# Altium footprint library ESD_LittleFuse_SP3304NUTG _3V3.PcbLib: 1 footprints
Each footprint in its own frame and in the unit in brackets; x right, y up, seen from the top. Pads: shape width x height; smd on the part's side, far side on the other; paste and mask are expansions set on the pad; w line width, h text height; cw(c..) or ccw(c..) is an arc to the next point about the centre after c.
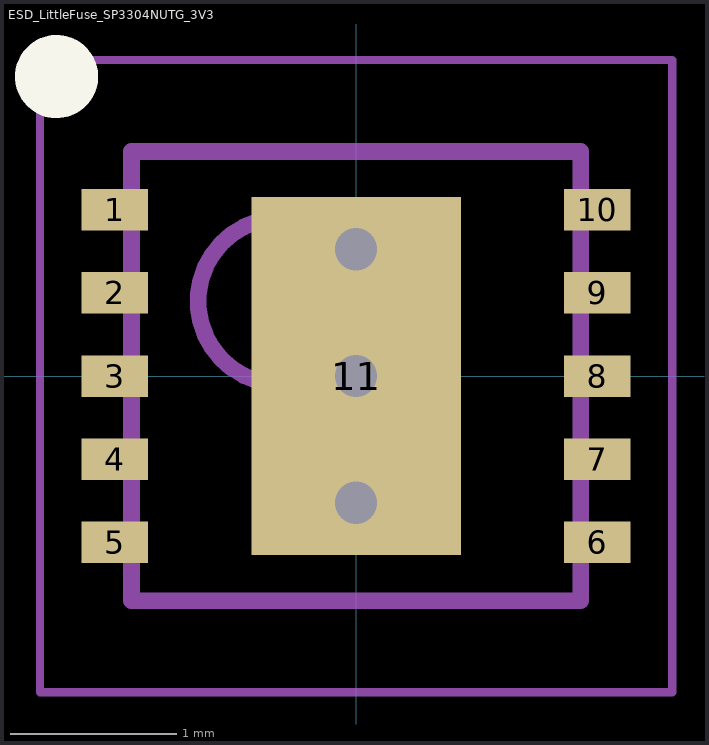
[diagram p0: the footprint, top view; thin cyan lines are the x and y axes]

## ESD_LittleFuse_SP3304NUTG_3V3 [mm]
height 0.55
pads (11):
  rect 0.4x0.25 smd: 1(-1.45,1) 2(-1.45,0.5) 3(-1.45,0) 4(-1.45,-0.5) 5(-1.45,-1) 6(1.45,-1) 7(1.45,-0.5) 8(1.45,0) 9(1.45,0.5) 10(1.45,1)
  rect 1.26x2.15 smd: 11(0,0)
via 0,0.762 diameter 0.55 hole 0.254
via 0,-0.762 diameter 0.55 hole 0.254
via 0,0 diameter 0.55 hole 0.254
Top Overlay:
  circle w0.25: c-1.8,1.8 r0.125
Mechanical 13:
  circle w0.1: c-0.45,0.45 r0.5
  lines w0.1: -1.35,-1.35 -1.35,1.35 1.35,1.35 1.35,-1.35 -1.35,-1.35
Mechanical 15:
  lines w0.05: -1.9,-1.9 -1.9,1.9 1.9,1.9 1.9,-1.9 -1.9,-1.9
  lines w0.1: -0.5,0 0.5,0 ; 0,-0.5 0,0.5
3D body "QFN50P260X260X55_HS-11N.step": height 0.55, standoff 0, extent -1.36,-1.35 1.36,1.35